# Altium schematic symbol library SRP3212A-2R2M.SchLib: 1 symbol
Pins are listed as number, name and electrical type; pins without a type are passive.

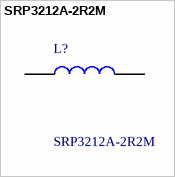
[diagram p0: symbol SRP3212A-2R2M]

## SRP3212A-2R2M
designator L?
Ind,3.2x2.5x1mm,2.2uH+/-20%,4A,shd; Manufacturer_Name: Bourns; Geometry.Height: 1.2mm; Mouser Part Number: 652-SRP3212A-2R2M; Mouser Price/Stock: https://www.mouser.co.uk/ProductDetail/Bourns/SRP3212A-2R2M?qs=t7xnP681wgXn6xyeAWQUgg%3D%3D; Manufacturer_Part_Number: SRP3212A-2R2M; Datasheet Link: https://www.bourns.com/docs/product-datasheets/srp3212.pdf
footprint INDC3225X120N
pins: 1, 2